# EAGLE library part AD8217BRMZ (library AD8217BRMZ)
Analog Devices AD8217BRMZ Current Loop Transmitter 80V 8-Pin MSOP Source: Datasheet <https://componentsearchengine.com/Datasheets/1/AD8217BRMZ.pdf>
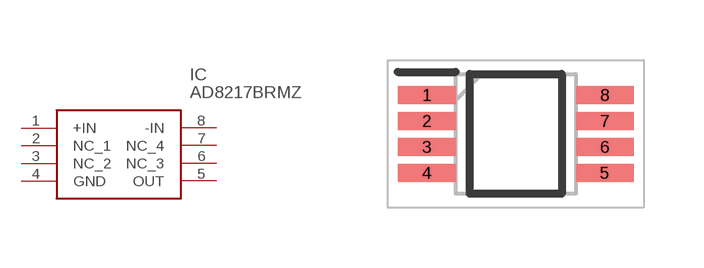
[diagram p0: symbol with the pads of SOP65P490X110-8N; footprint SOP65P490X110-8N]

Designator prefix IC

## AD8217BRMZ (Description: Analog Devices AD8217BRMZ Current Loop Transmitter 80V 8-Pin MSOP; Height: 1.1mm; Manufacturer_Name: Analog Devices; Manufacturer_Part_Number: AD8217BRMZ; Mouser_Part_Number: 584-AD8217BRMZ; Mouser_Price-Stock: https://www.mouser.com/Search/Refine.aspx?Keyword=584-AD8217BRMZ)  [SOP65P490X110-8N]
1  +IN
2  NC_1
3  NC_2
4  GND
5  OUT
6  NC_3
7  NC_4
8  -IN

## Footprint SOP65P490X110-8N (pad centres in mm)
(RM-8)
smd 1.45 x 0.45: 1 -2.225,0.975; 2 -2.225,0.325; 3 -2.225,-0.325; 4 -2.225,-0.975; 5 2.225,-0.975; 6 2.225,-0.325; 7 2.225,0.325; 8 2.225,0.975